# Altium footprint library CPT-4013-100T.PcbLib: 1 footprints
Each footprint in its own frame and in the unit in brackets; x right, y up, seen from the top. Pads: shape width x height; smd on the part's side, far side on the other; paste and mask are expansions set on the pad; w line width, h text height; cw(c..) or ccw(c..) is an arc to the next point about the centre after c.
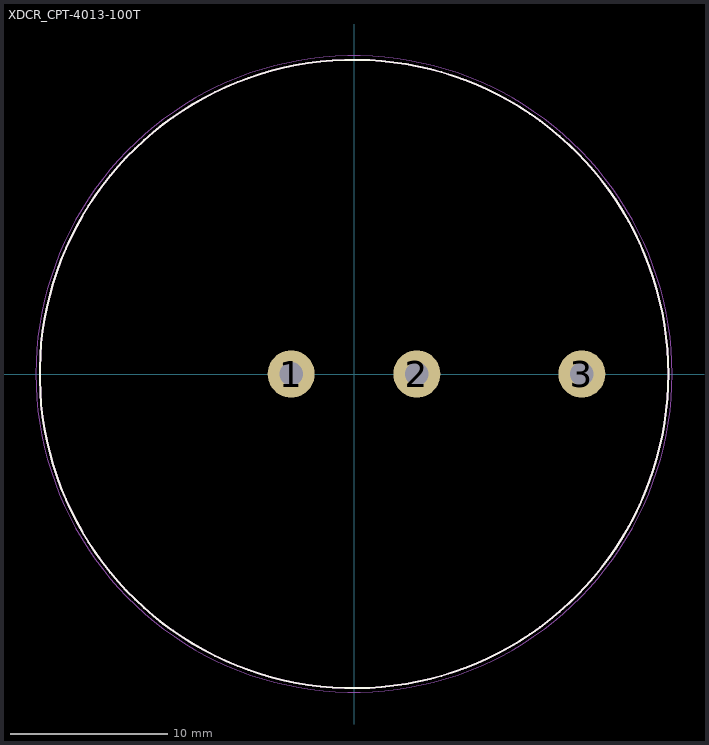
[diagram p0: the footprint, top view; thin cyan lines are the x and y axes]

## XDCR_CPT-4013-100T [mm]
pads (3):
  round 3 hole 1.5: 1(-4,0) 2(4,0) 3(14.5,0)
Top Overlay:
  circle w0.127: c0,0 r20
Mechanical 13:
  circle w0.127: c0,0 r20
Mechanical 15:
  circle w0.05: c0,0 r20.25